# Altium integrated library DRV8837DSGR.IntLib: 1 symbol
Pins are listed as number, name and electrical type; pins without a type are passive.

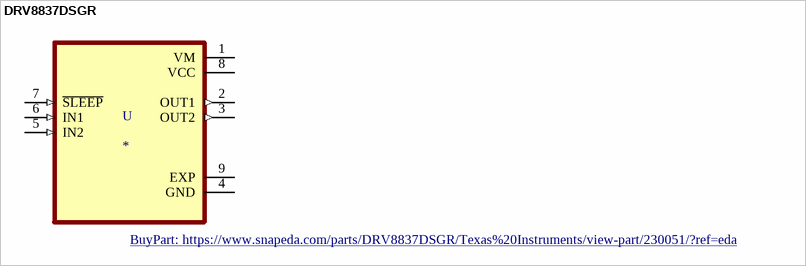
[diagram p0: symbol DRV8837DSGR]

## DRV8837DSGR
designator U
11-V, 1.8-A H-bridge motor driver 8-WSON -40 to 85; MP: DRV8837DSGR; MF: Texas Instruments; Mouser-Purchase-URL: https://snapeda.com/shop?store=Mouser&id=230051; Package: WSON-8 Texas Instruments; SnapEDA_Link: https://www.snapeda.com/parts/DRV8837DSGR/Texas%20Instruments/view-part/230051/?ref=snap; DigiKey-Purchase-URL: https://snapeda.com/shop?store=DigiKey&id=230051; Texas_Instruments-Purchase-URL: https://snapeda.com/shop?store=Texas+Instruments&id=230051; Digi-Key_Part_Number: 296-34806-1-ND; Value: *; Arrow_Electronics-Purchase-URL: https://snapeda.com/shop?store=Arrow+Electronics&id=230051; BuyPart: https://www.snapeda.com/parts/DRV8837DSGR/Texas%20Instruments/view-part/230051/?ref=eda
footprint SON50P200X200X80-9N
pins: 1 VM (power), 2 OUT1 (out), 3 OUT2 (out), 4 GND (power), 5 IN2 (in), 6 IN1 (in), 7 ~{SLEEP} (in), 8 VCC (power), 9 EXP (power)